# Altium schematic symbol library FE1.1S.SCHLIB: 16 symbols
Pins are listed as number, name and electrical type; pins without a type are passive.

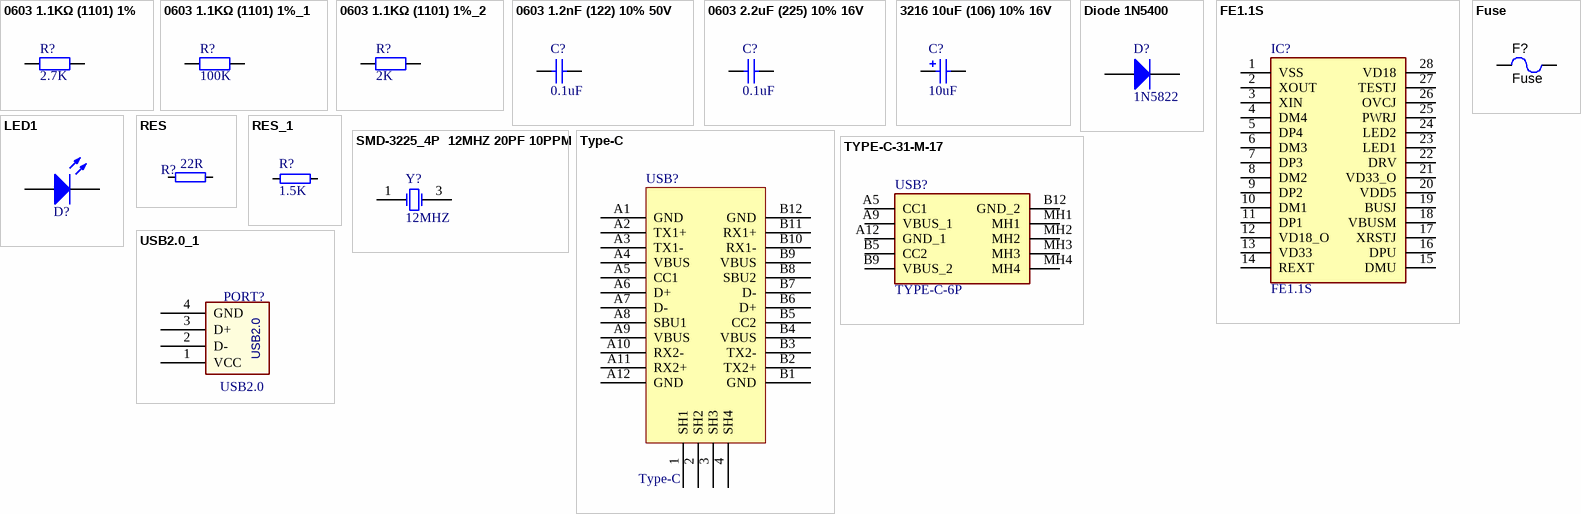
[diagram p0: symbols 0603 1.1KΩ (1101) 1% to USB2.0_1]

## 0603 1.1KΩ (1101) 1%
designator R?, comment 2.7K
贴片电阻; ComponentLink1Description: 供应商链接; ComponentLink1URL: http://www.szlcsc.com/product/details_23491.html; Package: 0603; Supplier: LC; SuppliersPartNumber: C22764
footprint R 0603_L (1/10W贴片电阻)
pins: 1, 2

## 0603 1.1KΩ (1101) 1%_1
designator R?, comment 100K
贴片电阻; ComponentLink1Description: 供应商链接; ComponentLink1URL: http://www.szlcsc.com/product/details_23491.html; Package: 0603; Supplier: LC; SuppliersPartNumber: C22764
footprint 0603_R
pins: 1, 2

## 0603 1.1KΩ (1101) 1%_2
designator R?, comment 2K
贴片电阻; ComponentLink1Description: 供应商链接; ComponentLink1URL: http://www.szlcsc.com/product/details_23491.html; Package: 0603; Supplier: LC; SuppliersPartNumber: C22764
footprint R 0603_L (1/10W贴片电阻)
pins: 1, 2

## 0603 1.2nF (122) 10% 50V
designator C?, comment 0.1uF
贴片电容; ComponentLink1Description: 供应商链接; ComponentLink1URL: http://www.szlcsc.com/product/details_31372.html; Package: 0603; Supplier: LC; SuppliersPartNumber: C30615
footprint C 0603_L (无极性贴片电容)
pins: 1, 2

## 0603 2.2uF (225) 10% 16V
designator C?, comment 0.1uF
贴片电容; ComponentLink1Description: 供应商链接; ComponentLink1URL: http://www.szlcsc.com/product/details_24366.html; Package: 0603; Supplier: LC; SuppliersPartNumber: C23630
footprint C 0603_L (无极性贴片电容)
pins: 1, 2

## 3216 10uF (106) 10% 16V
designator C?, comment 10uF
钽电容; ComponentLink1Description: 供应商链接; ComponentLink1URL: http://www.szlcsc.com/product/details_7643.html; Package: 3216; Supplier: LC; SuppliersPartNumber: C7171
footprint CASE-A_3216
pins: 1, 2

## Diode 1N5400
designator D?, comment 1N5822
3 Amp General Purpose Rectifier; Published: 8-Jun-2000; LatestRevisionDate: 17-Jul-2002; LatestRevisionNote: Re-released for DXP Platform.; DatasheetVersion: 1998; PackageVersion: Aug-1999; PackageReference: DO-201AD; Publisher: Altium Limited; PackageDescription: Diode, Axial; Body 9.5 x 5.6 mm (LxDia. max), Lead Dia. 1.32 mm (max); ComponentLink1Description: Manufacturer Link; ComponentLink1URL: http://www.fairchildsemi.com/; ComponentLink2Description: Datasheet; ComponentLink2URL: http://www.fairchildsemi.com/ds/1N%2F1N5400.pdf
simulation model 1N5400 (DIODE)
signal-integrity model 1N5400
footprint SMA (4.5x2.6*2.2mm（长宽高，不包括引脚）)
pins: 1 A, 2 K

## FE1.1S
designator IC?
Integrated Circuit; Manufacturer_Name: JFD IC; Datasheet Link: https://cdn-shop.adafruit.com/product-files/2991/FE1.1s+Data+Sheet+(Rev.+1.0).pdf; Height: 1.75mm; Manufacturer_Part_Number: FE1.1S; Arrow Part Number: FE1.1S
footprint SOP64P600X175-28N
pins: 1 VSS, 2 XOUT, 3 XIN, 4 DM4, 5 DP4, 6 DM3, 7 DP3, 8 DM2, 9 DP2, 10 DM1, 11 DP1, 12 VD18_O, 13 VD33, 14 REXT, 15 DMU, 16 DPU, 17 XRSTJ, 18 VBUSM, 19 BUSJ, 20 VDD5, 21 VD33_O, 22 DRV, 23 LED1, 24 LED2, 25 PWRJ, 26 OVCJ, 27 TESTJ, 28 VD18

## Fuse
designator F?
PartNumber: NANOSMDC020F-2; Manufacturer: TE Connectivity; VDC_V: 24; Rtyp_Ohm: 1.875; SymbolCreator: a0412235; SymbolVersion: 2013-04-02; PackageReference: 1206; MountType: SMT; CompType: Fuse; RoHS: Y; Published: 2009-03-05; Publisher: Texas Instruments; LatestRevisionDate: 2015-11-23; ComponentLink1Description: Datasheet URL; ComponentLink1URL: http://www.te.com/commerce/DocumentDelivery/DDEController?Action=srchrtrv&DocNm=SCD25536&DocType=Customer+Drawing&DocLang=English; Supplier 1: Digi-Key; Supplier Part Number 1: NANOSMDC020F-2CT-ND; Supplier 2: Mouser; Supplier Part Number 2: 650-NANOSMDC020F-2; Supplier 3: Farnell; Supplier Part Number 3: 1345939
footprint FU 1206 (贴片保险丝)
pins: 1, 2

## LED1
designator D?, comment LED  (value not drawn)
Typical INFRARED GaAs LED; Published: 8-Jun-2000; LatestRevisionDate: 08-Jul-2005; LatestRevisionNote: Mech Layer 1 removed.; PackageReference: LED-0; Publisher: Altium Limited
footprint 0603_LED_S1
pins: 1 A, 2 K

## RES
designator R?, comment 22R
footprint R 0603_L (1/10W贴片电阻)
pins: 1, 2

## RES_1
designator R?, comment 1.5K
footprint R 0603_L (1/10W贴片电阻)
pins: 1, 2

## SMD-3225_4P  12MHZ 20PF 10PPM
designator Y?, comment 12MHZ
贴片晶振; ComponentLink1Description: 供应商链接; ComponentLink1URL: http://www.szlcsc.com/product/details_9522.html; Package: SMD-3225_4P; Supplier: LC; SuppliersPartNumber: C9002
footprint OSC 3225-4P (3.2*2.5*0.7mm(长宽高))
pins: 1 OSC1, 3 OSC2

## Type-C
designator USB?
footprint USB_TYPE_C_16P
pins: 1 SH1, 2 SH2, 3 SH3, 4 SH4, A1 GND, A2 TX1+, A3 TX1-, A4 VBUS, A5 CC1, A6 D+, A7 D-, A8 SBU1, A9 VBUS, A10 RX2-, A11 RX2+, A12 GND, B1 GND, B2 TX2+, B3 TX2-, B4 VBUS, B5 CC2, B6 D+, B7 D-, B8 SBU2, B9 VBUS, B10 RX1-, B11 RX1+, B12 GND

## TYPE-C-31-M-17
designator USB?, comment TYPE-C-6P
Connector; Manufacturer_Name: Korean Hroparts Elec; Manufacturer_Part_Number: TYPE-C-31-M-17; Datasheet Link: https://datasheet.lcsc.com/szlcsc/1903211732_Korean-Hroparts-Elec-TYPE-C-31-M-17_C283540.pdf; Height: 3.26mm; Arrow Part Number: TYPE-C-31-M-17
footprint USB TYPEC6P
pins: A5 CC1, A9 VBUS_1, A12 GND_1, B5 CC2, B9 VBUS_2, B12 GND_2, MH1, MH2, MH3, MH4

## USB2.0_1
designator PORT?, comment USB2.0
footprint USB-A/S_A (A型直插母头，)
pins: 1 VCC (power), 2 D-, 3 D+, 4 GND (power)